# EAGLE library part 61303021821 (library Eagle_BOARD-TO-BOARD_CONNECTORS (rev18b))
WR-PHD 2.54mm Dual Socket Header, 30 Pins =>Code : Con_BTB_SHD_2.54_2_61303021821 <http://katalog.we-online.de/media/images/eican/Con_BTB_SHD_2.54_2_6130xx21821_pf2.jpg> Details see: http://katalog.we-online.de/en/em/613_0xx_218_21 Created 2014-05-29, Karrer Zheng 2014 (C) Würth Elektronik
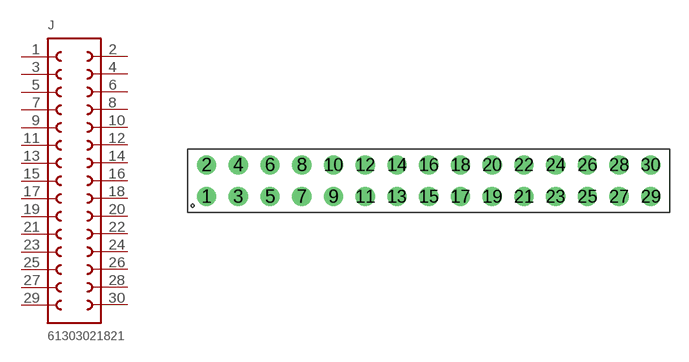
[diagram p118: symbol with the pads of 61303021821; footprint 61303021821]

Designator prefix J

## 61303021821  [61303021821]
1  1  pas
2  30  pas
3  2  pas
4  29  pas
5  3  pas
6  28  pas
7  4  pas
8  27  pas
9  5  pas
10  26  pas
11  6  pas
12  25  pas
13  7  pas
14  24  pas
15  8  pas
16  23  pas
17  9  pas
18  22  pas
19  10  pas
20  21  pas
21  11  pas
22  20  pas
23  12  pas
24  19  pas
25  13  pas
26  18  pas
27  14  pas
28  17  pas
29  15  pas
30  16  pas

## Footprint 61303021821 (pad centres in mm)
WR-PHD 2.54mm Dual Socket Header, 30 Pins
drill 1.02: 1 -17.78,-1.27; 2 -17.78,1.27; 3 -15.24,-1.27; 4 -15.24,1.27; 5 -12.7,-1.27; 6 -12.7,1.27; 7 -10.16,-1.27; 8 -10.16,1.27; 9 -7.62,-1.27; 10 -7.62,1.27; 11 -5.08,-1.27; 12 -5.08,1.27; 13 -2.54,-1.27; 14 -2.54,1.27; 15 0,-1.27; 16 0,1.27; 17 2.54,-1.27; 18 2.54,1.27; 19 5.08,-1.27; 20 5.08,1.27; 21 7.62,-1.27; 22 7.62,1.27; 23 10.16,-1.27; 24 10.16,1.27; 25 12.7,-1.27; 26 12.7,1.27; 27 15.24,-1.27; 28 15.24,1.27; 29 17.78,-1.27; 30 17.78,1.27